# EAGLE library part 691408520006B (library WR-TBL Spring Clamp)
WR-TBL Series 4085B - Screwless Push In 5.08mm pitch - 45° cable entry - THT KIND PROPERTIES Pitch 5.08 mm GENERAL INFORMATION Operating Temperature -40 up to +105 °C Mechanical Properties Wire Strip Length 9 up to 10 (mm) Wire Properties Solid Wire Section (AWG) 28 to 12 (AWG) Solid Wire Section (Metric) 0.2 to 2.5 (mm²) Stranded Wire Section (AWG) 28 to 12 (AWG) Stranded Wire Section (Metric) 0.2 to 2.5 (mm²) MATERIAL PROPERTIES Insulator Material PA66 Insulator Flammability Rating UL94 V-0 Insulator Color Green Spring Material Stainless Steel ELECTRICAL PROPERTIES cULus 15 A Working Voltage 300 V Working Voltage [cULus] 300 V Withstanding Voltage [cULus] 1600 V Contact Resistance [cULus] 20 mΩ CERTIFICATION cULus Approval E315414 Packaging Properties Packaging Box Details see: www.we-online.com/en/components/products/SERIES4085B_SCREWLESS-PUSH-IN_5_08MM_PITCH_45__CABLE_ENTRY_THT Created by Ella Wu 2021-02-24 2021(C) Würth Elektronik
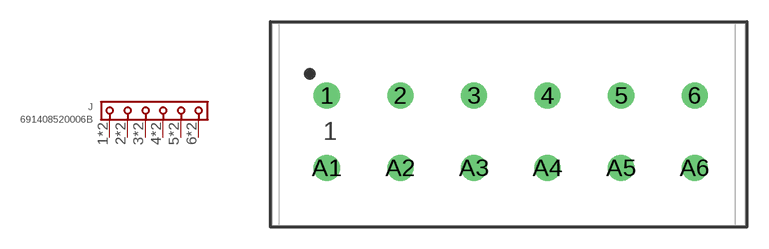
[diagram p116: symbol with the pads of 691408520006B; footprint 691408520006B]

Designator prefix J

## 691408520006B (APPLICATION: Screwless Push In; DATASHEET: https://www.we-online.com/redexpert/spec/691408520006B?ae; IR-UL: 15A; MODULARITY: Yes; MOUNT: THT; PART-NUMBER: 691408520006B; PINS: 6; PITCH: 5.08mm; TYPE: 45°; VALUE: 691408520006B; WIRE: 28 to 12 (AWG) 0.2 to 2.5 (mm²); WORKING-VOLTAGE-UL: 300V (AC))  [691408520006B]
1  1  pas
2  2  pas
3  3  pas
4  4  pas
5  5  pas
6  6  pas
A1  1  pas
A2  2  pas
A3  3  pas
A4  4  pas
A5  5  pas
A6  6  pas

## Footprint 691408520006B (pad centres in mm)
WR-TBL Series 4085B - Screwless Push In 5.08mm pitch - 45° cable entry - THT Series 4085B, Pitch 5.08mm,THT, 6pins
drill 1.2: 1 -12.7,2.5; 2 -7.62,2.5; 3 -2.54,2.5; 4 2.54,2.5; 5 7.62,2.5; 6 12.7,2.5; A1 -12.7,-2.5; A2 -7.62,-2.5; A3 -2.54,-2.5; A4 2.54,-2.5; A5 7.62,-2.5; A6 12.7,-2.5